# Altium footprint library BMS-pcblib.PcbLib: 21 footprints (part 1 of 2)
Each footprint in its own frame and in the unit in brackets; x right, y up, seen from the top. Pads: shape width x height; smd on the part's side, far side on the other; paste and mask are expansions set on the pad; w line width, h text height; cw(c..) or ccw(c..) is an arc to the next point about the centre after c.
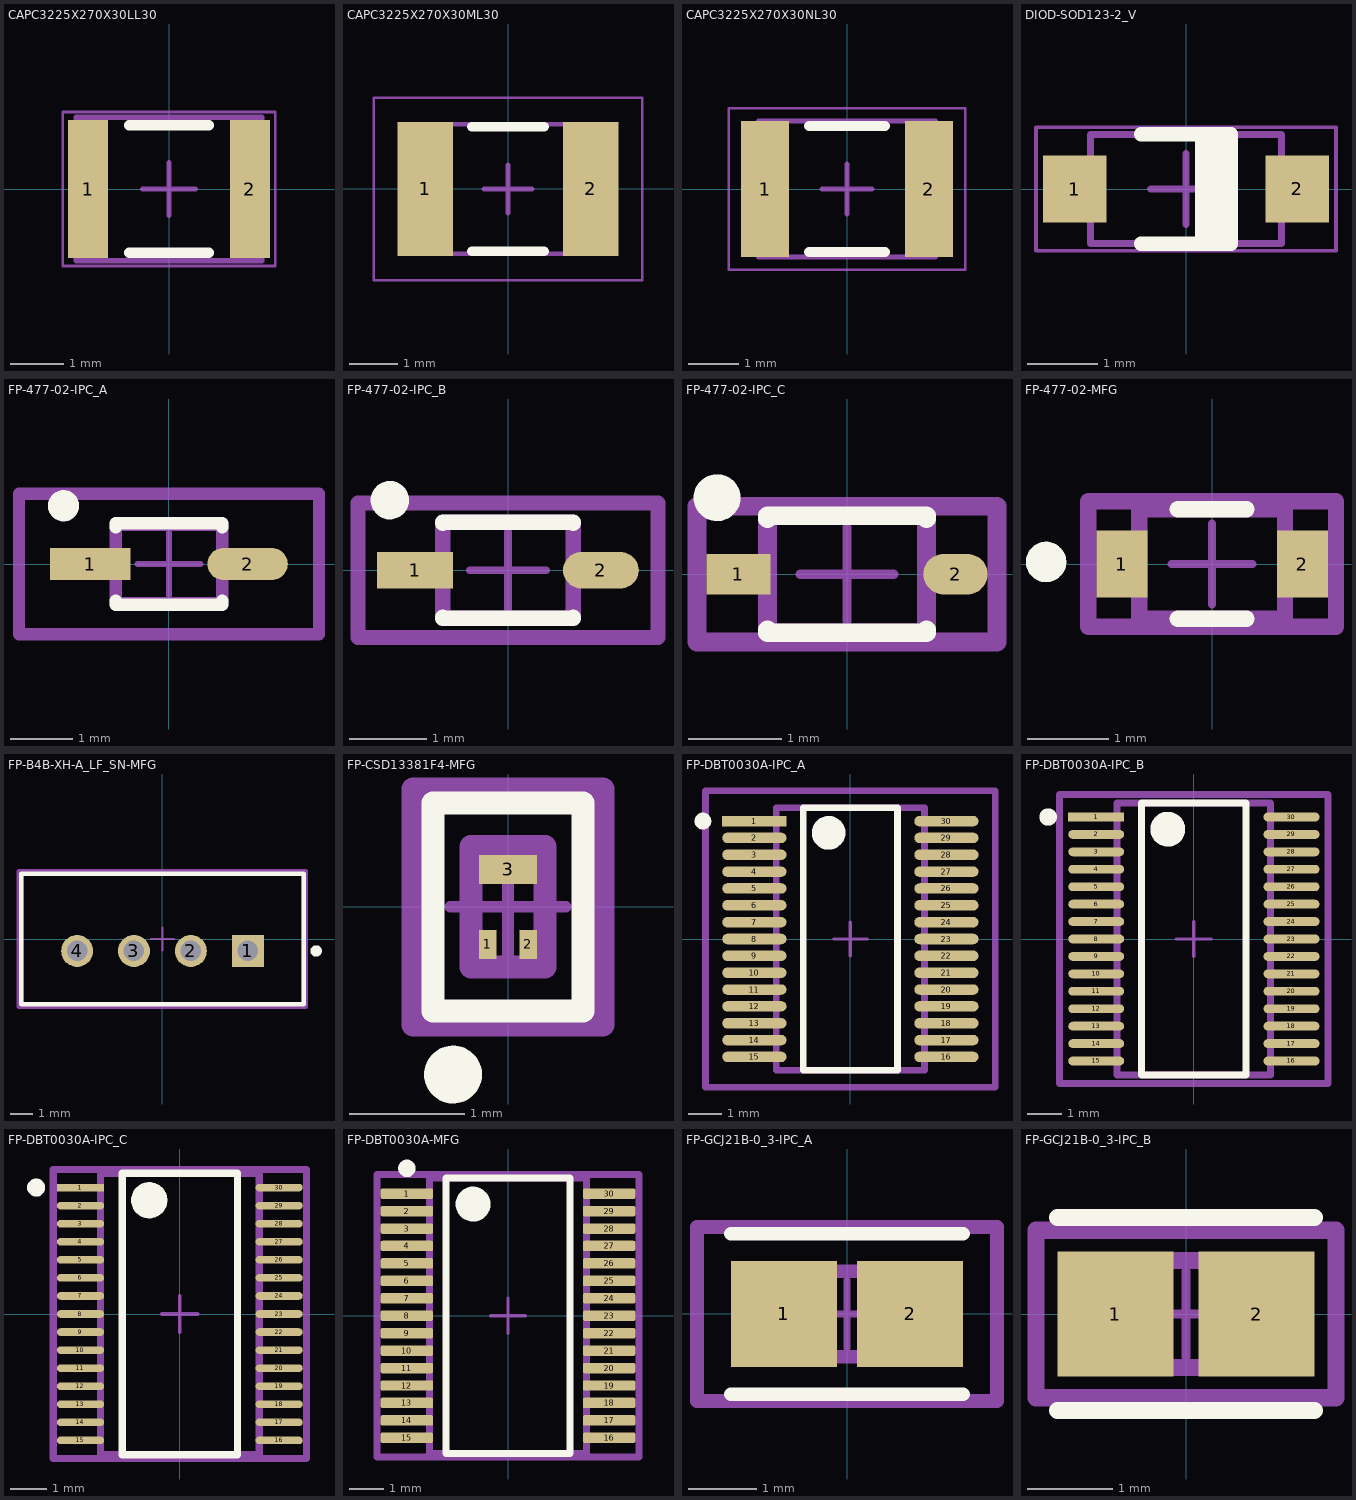
[diagram p0: the footprints below, top view; thin cyan lines are the x and y axes]

## CAPC3225X270X30LL30 [mm] "Chip Capacitor, 2-Leads, Body 3.5x2.7mm, IPC High Density"
height 2.7
pads (2):
  rect 0.75x2.6 smd: 1(-1.525,0) 2(1.525,0)
Top Overlay:
  lines w0.2: -0.75,-1.2 0.75,-1.2 ; -0.75,1.2 0.75,1.2
Top 3D Body:
  lines w0.1: -1.75,-1.35 -1.75,1.35 1.75,1.35 1.75,-1.35 -1.75,-1.35
Top Courtyard:
  lines w0.05: -2,-1.45 -2,1.45 2,1.45 2,-1.45 -2,-1.45
  lines w0.1: -0.5,0 0.5,0 ; 0,-0.5 0,0.5
3D body: height 2.7, standoff 0, extent -1.45,-1.35 1.45,1.35
3D body: height 2.7, standoff 0, extent -1.75,-1.35 -1.45,1.35
3D body: height 2.7, standoff 0, extent 1.45,-1.35 1.75,1.35

## CAPC3225X270X30ML30 [mm] "Chip Capacitor, 2-Leads, Body 3.5x2.7mm, IPC Low Density"
height 2.7
pads (2):
  rect 1.15x2.8 smd: 1(-1.725,0) 2(1.725,0)
Top Overlay:
  lines w0.2: -0.75,-1.3 0.75,-1.3 ; -0.75,1.3 0.75,1.3
Top 3D Body:
  lines w0.1: -1.75,-1.35 1.75,-1.35 1.75,1.35 -1.75,1.35 -1.75,-1.35
Top Courtyard:
  lines w0.05: -2.8,-1.9 2.8,-1.9 2.8,1.9 -2.8,1.9 -2.8,-1.9
  lines w0.1: -0.5,0 0.5,0 ; 0,-0.5 0,0.5
3D body: height 2.7, standoff 0, extent 1.45,-1.35 1.75,1.35
3D body: height 2.7, standoff 0, extent -1.75,-1.35 -1.45,1.35
3D body: height 2.7, standoff 0, extent -1.45,-1.35 1.45,1.35

## CAPC3225X270X30NL30 [mm] "Chip Capacitor, 2-Leads, Body 3.5x2.7mm, IPC Medium Density"
height 2.7
pads (2):
  rect 0.95x2.7 smd: 1(-1.625,0) 2(1.625,0)
Top Overlay:
  lines w0.2: -0.75,-1.25 0.75,-1.25 ; -0.75,1.25 0.75,1.25
Top 3D Body:
  lines w0.1: -1.75,-1.35 -1.75,1.35 1.75,1.35 1.75,-1.35 -1.75,-1.35
Top Courtyard:
  lines w0.05: -2.35,-1.6 -2.35,1.6 2.35,1.6 2.35,-1.6 -2.35,-1.6
  lines w0.1: -0.5,0 0.5,0 ; 0,-0.5 0,0.5
3D body "CAPC3225X27L.step": height 2.7, standoff 0, extent -1.75,-1.35 1.75,1.35

## DIOD-SOD123-2_V [mm] "SOD123, 2-Leads, Body 2.7x1.55mm, Height 1.45mm"
height 1.45
pads (2):
  rect 0.9x0.95 smd: 1(-1.575,0) 2(1.575,0)
Top Overlay:
  rectangle: 0.127,-0.825 0.635,0.762
  lines w0.2: -0.635,-0.775 0.635,-0.775 0.635,0.775 -0.635,0.775
Top 3D Body:
  lines w0.1: -1.35,-0.775 -1.35,0.775 1.35,0.775 1.35,-0.775 -1.35,-0.775
Top Courtyard:
  lines w0.05: -2.125,-0.875 -2.125,0.875 2.125,0.875 2.125,-0.875 -2.125,-0.875
  lines w0.1: -0.5,0 0.5,0 ; 0,-0.5 0,0.5
3D body: height 1.45, standoff 0, extent -1.35,-0.775 1.35,0.775

## FP-477-02-IPC_A [mm]
pads (2):
  rect 1.286x0.516 smd paste+0 mask+0: 1(-1.26,0)
  rrect100% 1.286x0.516 smd paste+0 mask+0: 2(1.26,0)
Top Overlay:
  circle w0.25: c-1.689,0.933 r0.125
  lines w0.2: -0.85,-0.585 -0.85,-0.65 0.85,-0.65 0.85,-0.585 ; -0.85,0.585 -0.85,0.65 0.85,0.65 0.85,0.585
Top Assembly:
  lines w0.2: -2.403,-1.125 -2.403,1.125 2.403,1.125 2.403,-1.125 -2.403,-1.125
  text ".Designator" at 0,0.188 h1
Top 3D Body:
  lines w0.2: -0.85,-0.625 -0.85,0.625 0.85,0.625 0.85,-0.625 -0.85,-0.625
Top Courtyard:
  lines w0.2: -2.403,-1.125 -2.403,1.125 2.403,1.125 2.403,-1.125 -2.403,-1.125
Top Component Center:
  lines w0.1: -0.5,0 0.5,0 ; 0,-0.5 0,0.5
3D body "Diode_ON_Semiconductor_NSR02100HT1G_eec.STEP": height 0.25, standoff 0, extent -2.403,-1.125 2.403,1.125

## FP-477-02-IPC_B [mm]
pads (2):
  rect 0.986x0.476 smd paste+0 mask+0: 1(-1.21,0)
  rrect100% 0.986x0.476 smd paste+0 mask+0: 2(1.21,0)
Top Overlay:
  circle w0.25: c-1.539,0.913 r0.125
  lines w0.2: -0.85,-0.613 -0.85,-0.625 0.85,-0.625 0.85,-0.613 ; -0.85,0.613 -0.85,0.625 0.85,0.625 0.85,0.613
Top Assembly:
  lines w0.2: -1.953,-0.875 -1.953,0.875 1.953,0.875 1.953,-0.875 -1.953,-0.875
  text ".Designator" at 0,0.188 h1
Top 3D Body:
  lines w0.2: -0.85,-0.625 -0.85,0.625 0.85,0.625 0.85,-0.625 -0.85,-0.625
Top Courtyard:
  lines w0.2: -1.953,-0.875 -1.953,0.875 1.953,0.875 1.953,-0.875 -1.953,-0.875
Top Component Center:
  lines w0.1: -0.5,0 0.5,0 ; 0,-0.5 0,0.5
3D body "Diode_ON_Semiconductor_NSR02100HT1G_eec.STEP": height 0.25, standoff 0, extent -1.953,-0.875 1.953,0.875

## FP-477-02-IPC_C [mm]
pads (2):
  rect 0.686x0.436 smd paste+0 mask+0: 1(-1.16,0)
  rrect100% 0.686x0.436 smd paste+0 mask+0: 2(1.16,0)
Top Overlay:
  circle w0.25: c-1.389,0.818 r0.125
  lines w0.2: -0.85,-0.593 -0.85,-0.625 0.85,-0.625 0.85,-0.593 ; -0.85,0.593 -0.85,0.625 0.85,0.625 0.85,0.593
Top Assembly:
  lines w0.2: -1.603,-0.725 1.603,-0.725 1.603,0.725 -1.603,0.725 -1.603,-0.725
  text ".Designator" at 0,0.188 h1
Top 3D Body:
  lines w0.2: -0.85,-0.625 0.85,-0.625 0.85,0.625 -0.85,0.625 -0.85,-0.625
Top Courtyard:
  lines w0.2: -1.603,-0.725 1.603,-0.725 1.603,0.725 -1.603,0.725 -1.603,-0.725
Top Component Center:
  lines w0.1: -0.5,0 0.5,0 ; 0,-0.5 0,0.5
3D body "Diode_ON_Semiconductor_NSR02100HT1G_eec.STEP": height 0.25, standoff 0, extent -1.603,-0.725 1.603,0.725

## FP-477-02-MFG [mm]
pads (2):
  rect 0.63x0.83 smd paste+0 mask+0: 1(-1.115,0) 2(1.115,0)
Top Overlay:
  circle w0.25: c-2.05,0.025 r0.125
  lines w0.2: -0.425,-0.675 0.425,-0.675 ; -0.425,0.675 0.425,0.675
Top Assembly:
  lines w0.2: -1.53,-0.775 -1.53,0.775 1.53,0.775 1.53,-0.775 -1.53,-0.775
  text ".Designator" at 0,-0.001 h1
Top 3D Body:
  lines w0.2: -0.9,-0.675 -0.9,0.675 0.9,0.675 0.9,-0.675 -0.9,-0.675
Top Courtyard:
  lines w0.2: -1.53,-0.775 -1.53,0.775 1.53,0.775 1.53,-0.775 -1.53,-0.775
Top Component Center:
  lines w0.1: -0.5,0 0.5,0 ; 0,-0.5 0,0.5
3D body "Diode_ON_Semiconductor_NSR02100HT1G_eec.STEP": height 0.25, standoff 0, extent -1.53,-0.775 1.53,0.775

## FP-B4B-XH-A_LF_SN-MFG [mm]
pads (4):
  rect 1.4x1.4 hole 0.9 paste-2539.97 mask+0: 1(3.75,-0.525)
  round 1.4 hole 0.9 paste-2539.97 mask+0: 2(1.25,-0.525) 3(-1.25,-0.525) 4(-3.75,-0.525)
Top Overlay:
  circle w0.25: c6.75,-0.525 r0.125
  lines w0.2: -6.2,-2.875 -6.2,2.875 6.2,2.875 6.2,-2.875 -6.2,-2.875
Top Assembly:
  lines w0.2: -6.3,-2.975 -6.3,2.975 6.3,2.975 6.3,-2.975 -6.3,-2.975
  text ".Designator" at 0,0.188 h1
Top 3D Body:
  lines w0.2: -6.2,-2.875 -6.2,2.875 6.2,2.875 6.2,-2.875 -6.2,-2.875
Top Courtyard:
  lines w0.2: -6.3,-2.975 -6.3,2.975 6.3,2.975 6.3,-2.975 -6.3,-2.975
Top Component Center:
  lines w0.1: -0.5,0 0.5,0 ; 0,-0.5 0,0.5
3D body "Conn_JST_B4B-XH-A_LF_SN_eec.STEP": height 0.25, standoff 0, extent -6.3,-2.975 6.3,2.975

## FP-CSD13381F4-MFG [mm]
pads (3):
  rect 0.15x0.25 smd paste+0 mask+0: 1(-0.175,-0.325) 2(0.175,-0.325)
  rect 0.5x0.25 smd paste+0 mask+0: 3(0,0.325)
Top Overlay:
  circle w0.25: c-0.475,-1.45 r0.125
  lines w0.2: -0.65,-0.9 -0.65,0.9 0.65,0.9 0.65,-0.9 -0.65,-0.9
Top Assembly:
  lines w0.2: -0.82,-1.02 -0.82,1.02 0.82,1.02 0.82,-1.02 -0.82,-1.02
  text ".Designator" at 0,-0.001 h1
Top 3D Body:
  lines w0.2: -0.32,-0.52 -0.32,0.52 0.32,0.52 0.32,-0.52 -0.32,-0.52
Top Courtyard:
  lines w0.2: -0.82,-1.02 -0.82,1.02 0.82,1.02 0.82,-1.02 -0.82,-1.02
Top Component Center:
  lines w0.1: -0.5,0 0.5,0 ; 0,-0.5 0,0.5
3D body "Trans_Texas_Instruments_CSD13381F4_eec.STEP": height 0.25, standoff 0, extent -0.82,-1.02 0.82,1.02

## FP-DBT0030A-IPC_A [mm]
pads (30):
  rect 1.907x0.312 smd paste+0 mask+0: 1(-2.851,3.5)
  rrect100% 1.907x0.312 smd paste+0 mask+0: 2(-2.851,3) 3(-2.851,2.5) 4(-2.851,2) 5(-2.851,1.5) 6(-2.851,1) 7(-2.851,0.5) 8(-2.851,0) 9(-2.851,-0.5) 10(-2.851,-1) 11(-2.851,-1.5) 12(-2.851,-2) 13(-2.851,-2.5) 14(-2.851,-3) 15(-2.851,-3.5) 16(2.851,-3.5) 17(2.851,-3) 18(2.851,-2.5) 19(2.851,-2) 20(2.851,-1.5) 21(2.851,-1) 22(2.851,-0.5) 23(2.851,0) 24(2.851,0.5) 25(2.851,1) 26(2.851,1.5) 27(2.851,2) 28(2.851,2.5) 29(2.851,3) 30(2.851,3.5)
Top Overlay:
  circle w0.5: c-0.647,3.15 r0.25
  circle w0.25: c-4.379,3.5 r0.125
  lines w0.2: -1.397,-3.9 1.397,-3.9 1.397,3.9 -1.397,3.9 -1.397,-3.9
Top Assembly:
  lines w0.2: -4.304,-4.4 4.304,-4.4 4.304,4.4 -4.304,4.4 -4.304,-4.4
  text ".Designator" at 0,-0.001 h1
Top 3D Body:
  lines w0.2: -2.2,-3.9 2.2,-3.9 2.2,3.9 -2.2,3.9 -2.2,-3.9
Top Courtyard:
  lines w0.2: -4.304,-4.4 4.304,-4.4 4.304,4.4 -4.304,4.4 -4.304,-4.4
Top Component Center:
  lines w0.1: -0.5,0 0.5,0 ; 0,-0.5 0,0.5
3D body "IC_Texas_Instruments_BQ7693003DBTR_eec.STEP": height 0.25, standoff 0, extent -4.304,-4.4 4.304,4.4

## FP-DBT0030A-IPC_B [mm]
pads (30):
  rect 1.607x0.252 smd paste+0 mask+0: 1(-2.801,3.5)
  rrect100% 1.607x0.252 smd paste+0 mask+0: 2(-2.801,3) 3(-2.801,2.5) 4(-2.801,2) 5(-2.801,1.5) 6(-2.801,1) 7(-2.801,0.5) 8(-2.801,0) 9(-2.801,-0.5) 10(-2.801,-1) 11(-2.801,-1.5) 12(-2.801,-2) 13(-2.801,-2.5) 14(-2.801,-3) 15(-2.801,-3.5) 16(2.801,-3.5) 17(2.801,-3) 18(2.801,-2.5) 19(2.801,-2) 20(2.801,-1.5) 21(2.801,-1) 22(2.801,-0.5) 23(2.801,0) 24(2.801,0.5) 25(2.801,1) 26(2.801,1.5) 27(2.801,2) 28(2.801,2.5) 29(2.801,3) 30(2.801,3.5)
Top Overlay:
  circle w0.25: c-4.179,3.5 r0.125
  circle w0.5: c-0.747,3.15 r0.25
  lines w0.2: -1.497,-3.9 -1.497,3.9 1.497,3.9 1.497,-3.9 -1.497,-3.9
Top Assembly:
  lines w0.2: -3.854,-4.15 -3.854,4.15 3.854,4.15 3.854,-4.15 -3.854,-4.15
  text ".Designator" at 0,-0.001 h1
Top 3D Body:
  lines w0.2: -2.2,-3.9 -2.2,3.9 2.2,3.9 2.2,-3.9 -2.2,-3.9
Top Courtyard:
  lines w0.2: -3.854,-4.15 -3.854,4.15 3.854,4.15 3.854,-4.15 -3.854,-4.15
Top Component Center:
  lines w0.1: -0.5,0 0.5,0 ; 0,-0.5 0,0.5
3D body "IC_Texas_Instruments_BQ7693003DBTR_eec.STEP": height 0.25, standoff 0, extent -3.854,-4.15 3.854,4.15

## FP-DBT0030A-IPC_C [mm]
pads (30):
  rect 1.307x0.212 smd paste+0 mask+0: 1(-2.751,3.5)
  rrect100% 1.307x0.212 smd paste+0 mask+0: 2(-2.751,3) 3(-2.751,2.5) 4(-2.751,2) 5(-2.751,1.5) 6(-2.751,1) 7(-2.751,0.5) 8(-2.751,0) 9(-2.751,-0.5) 10(-2.751,-1) 11(-2.751,-1.5) 12(-2.751,-2) 13(-2.751,-2.5) 14(-2.751,-3) 15(-2.751,-3.5) 16(2.751,-3.5) 17(2.751,-3) 18(2.751,-2.5) 19(2.751,-2) 20(2.751,-1.5) 21(2.751,-1) 22(2.751,-0.5) 23(2.751,0) 24(2.751,0.5) 25(2.751,1) 26(2.751,1.5) 27(2.751,2) 28(2.751,2.5) 29(2.751,3) 30(2.751,3.5)
Top Overlay:
  circle w0.5: c-0.847,3.15 r0.25
  circle w0.25: c-3.979,3.5 r0.125
  lines w0.2: -1.597,-3.9 1.597,-3.9 1.597,3.9 -1.597,3.9 -1.597,-3.9
Top Assembly:
  lines w0.2: -3.504,-4 3.504,-4 3.504,4 -3.504,4 -3.504,-4
  text ".Designator" at 0,-0.001 h1
Top 3D Body:
  lines w0.2: -2.2,-3.9 2.2,-3.9 2.2,3.9 -2.2,3.9 -2.2,-3.9
Top Courtyard:
  lines w0.2: -3.504,-4 3.504,-4 3.504,4 -3.504,4 -3.504,-4
Top Component Center:
  lines w0.1: -0.5,0 0.5,0 ; 0,-0.5 0,0.5
3D body "IC_Texas_Instruments_BQ7693003DBTR_eec.STEP": height 0.25, standoff 0, extent -3.504,-4 3.504,4

## FP-DBT0030A-MFG [mm]
pads (30):
  rrect33% 1.5x0.3 smd paste+0 mask+0: 1(-2.9,3.5) 2(-2.9,3) 3(-2.9,2.5) 4(-2.9,2) 5(-2.9,1.5) 6(-2.9,1) 7(-2.9,0.5) 8(-2.9,0) 9(-2.9,-0.5) 10(-2.9,-1) 11(-2.9,-1.5) 12(-2.9,-2) 13(-2.9,-2.5) 14(-2.9,-3) 15(-2.9,-3.5) 16(2.9,-3.5) 17(2.9,-3) 18(2.9,-2.5) 19(2.9,-2) 20(2.9,-1.5) 21(2.9,-1) 22(2.9,-0.5) 23(2.9,0) 24(2.9,0.5) 25(2.9,1) 26(2.9,1.5) 27(2.9,2) 28(2.9,2.5) 29(2.9,3) 30(2.9,3.5)
Top Overlay:
  circle w0.5: c-1,3.2 r0.25
  circle w0.25: c-2.9,4.225 r0.125
  lines w0.2: -1.775,-3.95 -1.775,3.95 1.775,3.95 1.775,-3.95 -1.775,-3.95
Top Assembly:
  lines w0.2: -3.75,-4.05 -3.75,4.05 3.75,4.05 3.75,-4.05 -3.75,-4.05
  text ".Designator" at 0,-0.001 h1
Top 3D Body:
  lines w0.2: -2.25,-3.95 -2.25,3.95 2.25,3.95 2.25,-3.95 -2.25,-3.95
Top Courtyard:
  lines w0.2: -3.75,-4.05 -3.75,4.05 3.75,4.05 3.75,-4.05 -3.75,-4.05
Top Component Center:
  lines w0.1: -0.5,0 0.5,0 ; 0,-0.5 0,0.5
3D body "IC_Texas_Instruments_BQ7693003DBTR_eec.STEP": height 0.25, standoff 0, extent -3.75,-4.05 3.75,4.05

## FP-GCJ21B-0_3-IPC_A [mm]
pads (2):
  rect 1.553x1.556 smd paste+0 mask+0: 1(-0.925,0) 2(0.925,0)
Top Overlay:
  lines w0.2: -1.702,-1.178 1.702,-1.178 ; -1.702,1.178 1.702,1.178
Top Assembly:
  lines w0.2: -2.202,-1.278 -2.202,1.278 2.202,1.278 2.202,-1.278 -2.202,-1.278
  text ".Designator" at 0,0.188 h1
Top 3D Body:
  lines w0.2: -1,-0.625 -1,0.625 1,0.625 1,-0.625 -1,-0.625
Top Courtyard:
  lines w0.2: -2.202,-1.278 -2.202,1.278 2.202,1.278 2.202,-1.278 -2.202,-1.278
Top Component Center:
  lines w0.1: -0.5,0 0.5,0 ; 0,-0.5 0,0.5
3D body "Cap_Murata_GCJ21BR71H105KA01K_eec.STEP": height 0.25, standoff 0, extent -2.202,-1.278 2.202,1.278

## FP-GCJ21B-0_3-IPC_B [mm]
pads (2):
  rect 1.353x1.456 smd paste+0 mask+0: 1(-0.825,0) 2(0.825,0)
Top Overlay:
  lines w0.2: -1.502,-1.128 1.502,-1.128 ; -1.502,1.128 1.502,1.128
Top Assembly:
  lines w0.2: -1.752,-0.978 1.752,-0.978 1.752,0.978 -1.752,0.978 -1.752,-0.978
  text ".Designator" at 0,0.188 h1
Top 3D Body:
  lines w0.2: -1,-0.625 1,-0.625 1,0.625 -1,0.625 -1,-0.625
Top Courtyard:
  lines w0.2: -1.752,-0.978 1.752,-0.978 1.752,0.978 -1.752,0.978 -1.752,-0.978
Top Component Center:
  lines w0.1: -0.5,0 0.5,0 ; 0,-0.5 0,0.5
3D body "Cap_Murata_GCJ21BR71H105KA01K_eec.STEP": height 0.25, standoff 0, extent -1.752,-0.978 1.752,0.978